# EAGLE library part 687144149022 (library Eagle_FPC_CONNECTOR_AND_FFC_CAB (rev18c))
WR-FPC 0.50mm SMT Horiz. Bot. Contact Hinge type WR-FPC 0.50mm 44 pins Hinge type SMT Horizontal Bottom Contact ;=>Code : Con_FPC_ZIF_0.50_6871xx149022_687144149022 <http://katalog.we-online.de/media/images/eican/Con_FPC_ZIF_0.50_687115149022_pf2.jpg> Details see: http://katalog.we-online.de/em/datasheet/6871xx149022.pdf Created 2014-10-08, Karrer Zheng 2014 (C) Wurth Elektronik
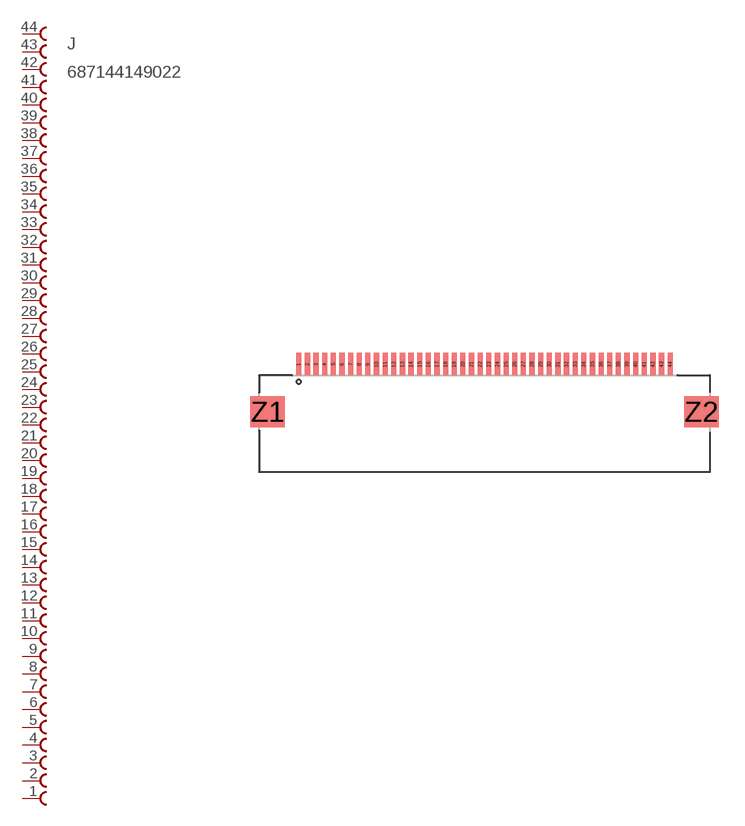
[diagram p123: symbol with the pads of 687144149022; footprint 687144149022]

Designator prefix J

## 687144149022  [687144149022]
1  44  pas
2  43  pas
3  42  pas
4  41  pas
5  40  pas
6  39  pas
7  38  pas
8  37  pas
9  36  pas
10  35  pas
11  34  pas
12  33  pas
13  32  pas
14  31  pas
15  30  pas
16  29  pas
17  28  pas
18  27  pas
19  26  pas
20  25  pas
21  24  pas
22  23  pas
23  22  pas
24  21  pas
25  20  pas
26  19  pas
27  18  pas
28  17  pas
29  16  pas
30  15  pas
31  14  pas
32  13  pas
33  12  pas
34  11  pas
35  10  pas
36  9  pas
37  8  pas
38  7  pas
39  6  pas
40  5  pas
41  4  pas
42  3  pas
43  2  pas
44  1  pas

## Footprint 687144149022 (pad centres in mm)
WR-FPC 0.50mm SMT Horiz. Bot. Contact Hinge type WR-FPC 0.50mm 44pins Hinge type SMT Horizontal Bottom Contact
smd 0.3 x 1.3: 1 -10.75,0; 2 -10.25,0; 3 -9.75,0; 4 -9.25,0; 5 -8.75,0; 6 -8.25,0; 7 -7.75,0; 8 -7.25,0; 9 -6.75,0; 10 -6.25,0; 11 -5.75,0; 12 -5.25,0; 13 -4.75,0; 14 -4.25,0; 15 -3.75,0; 16 -3.25,0; 17 -2.75,0; 18 -2.25,0; 19 -1.75,0; 20 -1.25,0; 21 -0.75,0; 22 -0.25,0; 23 0.25,0; 24 0.75,0; 25 1.25,0; 26 1.75,0; 27 2.25,0; 28 2.75,0; 29 3.25,0; 30 3.75,0; 31 4.25,0; 32 4.75,0; 33 5.25,0; 34 5.75,0; 35 6.25,0; 36 6.75,0; 37 7.25,0; 38 7.75,0; 39 8.25,0; 40 8.75,0; 41 9.25,0; 42 9.75,0; 43 10.25,0; 44 10.75,0
smd 2 x 1.8: Z1 -12.55,-2.75; Z2 12.55,-2.75